# Altium integrated library Wuerth Elektronik SMD High Current Choke.IntLib: 172 symbols (part 1 of 2)
Pins are listed as number, name and electrical type; pins without a type are passive.

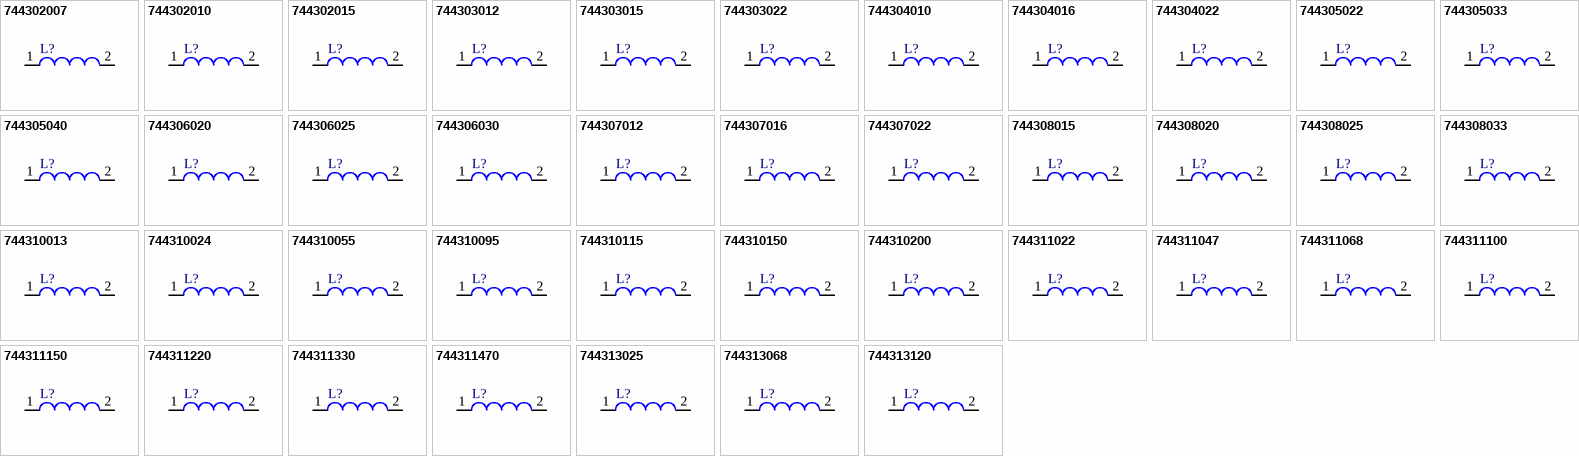
[diagram p0: symbols 744302007 to 744313120]

## 744302007
designator L?
SMD Flat Wire Inductor WE-HCM High Current, L=72.0 nH; Inductance: 72.0 nH; DatasheetVersion: ver 1, Jan-2008; PackageVersion: 2009; PackageReference: WE-HCM-7050; PackageDescription: SMD Inductor, 2-Leads, Body 7.15 x 7.0 mm; ComponentLink1Description: Manufacturer URL; ComponentLink1URL: http://www.we-online.com; ComponentLink2Description: Datasheet; ComponentLink2URL: http://www.we-online.de/katalog/media/pdf/744302007.pdf
footprint WE-HCM-7050 (SMD Inductor, 2-Leads, Body 7.15x7.0x4.7 mm)
pins: 1, 2

## 744302010
designator L?
SMD Flat Wire Inductor WE-HCM High Current, L=105 nH; Inductance: 105 nH; DatasheetVersion: ver 1, Jan-2008; PackageVersion: 2009; PackageReference: WE-HCM-7050; PackageDescription: SMD Inductor, 2-Leads, Body 7.15 x 7.0 mm; ComponentLink1Description: Manufacturer URL; ComponentLink1URL: http://www.we-online.com; ComponentLink2Description: Datasheet; ComponentLink2URL: http://www.we-online.de/katalog/media/pdf/744302010.pdf
footprint WE-HCM-7050 (SMD Inductor, 2-Leads, Body 7.15x7.0x4.7 mm)
pins: 1, 2

## 744302015
designator L?
SMD Flat Wire Inductor WE-HCM High Current, L=150 nH; Inductance: 150 nH; DatasheetVersion: ver 2, Jun-2009; PackageVersion: 2009; PackageReference: WE-HCM-7050; PackageDescription: SMD Inductor, 2-Leads, Body 7.15 x 7.0 mm; ComponentLink1Description: Manufacturer URL; ComponentLink1URL: http://www.we-online.com; ComponentLink2Description: Datasheet; ComponentLink2URL: http://www.we-online.de/katalog/media/pdf/744302015.pdf
footprint WE-HCM-7050 (SMD Inductor, 2-Leads, Body 7.15x7.0x4.7 mm)
pins: 1, 2

## 744303012
designator L?
SMD Flat Wire Inductor WE-HCM High Current, L=120 nH; Inductance: 120 nH; DatasheetVersion: ver 1, Dec-2007; PackageVersion: 2007; PackageReference: WE-HCM-1050; PackageDescription: SMD Inductor, 2-Leads, Body 10.2 x 7.0 mm; ComponentLink1Description: Manufacturer URL; ComponentLink1URL: http://www.we-online.com; ComponentLink2Description: Datasheet; ComponentLink2URL: http://www.we-online.de/katalog/media/pdf/744303012.pdf
footprint WE-HCM-1050 (SMD Inductor, 2-Leads, Body 10.2x7.0x5.0 mm)
pins: 1, 2

## 744303015
designator L?
SMD Flat Wire Inductor WE-HCM High Current, L=155 nH; Inductance: 155 nH; DatasheetVersion: ver 1, Dec-2007; PackageVersion: 2007; PackageReference: WE-HCM-1050; PackageDescription: SMD Inductor, 2-Leads, Body 10.2 x 7.0 mm; ComponentLink1Description: Manufacturer URL; ComponentLink1URL: http://www.we-online.com; ComponentLink2Description: Datasheet; ComponentLink2URL: http://www.we-online.de/katalog/media/pdf/744303015.pdf
footprint WE-HCM-1050 (SMD Inductor, 2-Leads, Body 10.2x7.0x5.0 mm)
pins: 1, 2

## 744303022
designator L?
SMD Flat Wire Inductor WE-HCM High Current, L=220 nH; Inductance: 220 nH; DatasheetVersion: ver 1, Dec-2007; PackageVersion: 2007; PackageReference: WE-HCM-1050; PackageDescription: SMD Inductor, 2-Leads, Body 10.2 x 7.0 mm; ComponentLink1Description: Manufacturer URL; ComponentLink1URL: http://www.we-online.com; ComponentLink2Description: Datasheet; ComponentLink2URL: http://www.we-online.de/katalog/media/pdf/744303022.pdf
footprint WE-HCM-1050 (SMD Inductor, 2-Leads, Body 10.2x7.0x5.0 mm)
pins: 1, 2

## 744304010
designator L?
SMD Flat Wire Inductor WE-HCM High Current, L=100 nH; Inductance: 100 nH; DatasheetVersion: ver 1, Aug-2009; PackageVersion: 2009; PackageReference: WE-HCM-1240; PackageDescription: SMD Inductor, 2-Leads, Body 11.5 x 11.8 mm; ComponentLink1Description: Manufacturer URL; ComponentLink1URL: http://www.we-online.com; ComponentLink2Description: Datasheet; ComponentLink2URL: http://www.we-online.de/katalog/media/pdf/744304010.pdf
footprint WE-HCM-1240 (SMD Inductor, 2-Leads, Body 11.5x11.8x4.0 mm)
pins: 1, 2

## 744304016
designator L?
SMD Flat Wire Inductor WE-HCM High Current, L=160 nH; Inductance: 160 nH; DatasheetVersion: ver 1, Aug-2009; PackageVersion: 2009; PackageReference: WE-HCM-1240; PackageDescription: SMD Inductor, 2-Leads, Body 11.5 x 11.8 mm; ComponentLink1Description: Manufacturer URL; ComponentLink1URL: http://www.we-online.com; ComponentLink2Description: Datasheet; ComponentLink2URL: http://www.we-online.de/katalog/media/pdf/744304016.pdf
footprint WE-HCM-1240 (SMD Inductor, 2-Leads, Body 11.5x11.8x4.0 mm)
pins: 1, 2

## 744304022
designator L?
SMD Flat Wire Inductor WE-HCM High Current, L=220 nH; Inductance: 220 nH; DatasheetVersion: ver 1, Aug-2009; PackageVersion: 2009; PackageReference: WE-HCM-1240; PackageDescription: SMD Inductor, 2-Leads, Body 11.5 x 11.8 mm; ComponentLink1Description: Manufacturer URL; ComponentLink1URL: http://www.we-online.com; ComponentLink2Description: Datasheet; ComponentLink2URL: http://www.we-online.de/katalog/media/pdf/744304022.pdf
footprint WE-HCM-1240 (SMD Inductor, 2-Leads, Body 11.5x11.8x4.0 mm)
pins: 1, 2

## 744305022
designator L?
SMD Flat Wire Inductor WE-HCM High Current, L=220 nH; Inductance: 220 nH; DatasheetVersion: ver 1, Jan-2009; PackageVersion: 2009; PackageReference: WE-HCM-1350; PackageDescription: SMD Inductor, 2-Leads, Body 13.5 x 13.3 mm; ComponentLink1Description: Manufacturer URL; ComponentLink1URL: http://www.we-online.com; ComponentLink2Description: Datasheet; ComponentLink2URL: http://www.we-online.de/katalog/media/pdf/744305022.pdf
footprint WE-HCM-1350 (SMD Inductor, 2-Leads, Body 13.5x13.3x5.2 mm)
pins: 1, 2

## 744305033
designator L?
SMD Flat Wire Inductor WE-HCM High Current, L=330 nH; Inductance: 330 nH; DatasheetVersion: ver 1, Jan-2009; PackageVersion: 2009; PackageReference: WE-HCM-1350; PackageDescription: SMD Inductor, 2-Leads, Body 13.5 x 13.3 mm; ComponentLink1Description: Manufacturer URL; ComponentLink1URL: http://www.we-online.com; ComponentLink2Description: Datasheet; ComponentLink2URL: http://www.we-online.de/katalog/media/pdf/744305033.pdf
footprint WE-HCM-1350 (SMD Inductor, 2-Leads, Body 13.5x13.3x5.2 mm)
pins: 1, 2

## 744305040
designator L?
SMD Flat Wire Inductor WE-HCM High Current, L=400 nH; Inductance: 400 nH; DatasheetVersion: ver 1, Jan-2009; PackageVersion: 2009; PackageReference: WE-HCM-1350; PackageDescription: SMD Inductor, 2-Leads, Body 13.5 x 13.3 mm; ComponentLink1Description: Manufacturer URL; ComponentLink1URL: http://www.we-online.com; ComponentLink2Description: Datasheet; ComponentLink2URL: http://www.we-online.de/katalog/media/pdf/744305040.pdf
footprint WE-HCM-1350 (SMD Inductor, 2-Leads, Body 13.5x13.3x5.2 mm)
pins: 1, 2

## 744306020
designator L?
SMD Flat Wire Inductor WE-HCM High Current, L=200 nH; Inductance: 200 nH; DatasheetVersion: ver 1, Jan-2009; PackageVersion: 2009; PackageReference: WE-HCM-1052; PackageDescription: SMD Inductor, 2-Leads, Body 10.5 x 10.3 mm; ComponentLink1Description: Manufacturer URL; ComponentLink1URL: http://www.we-online.com; ComponentLink2Description: Datasheet; ComponentLink2URL: http://www.we-online.de/katalog/media/pdf/744306020.pdf
footprint WE-HCM-1052 (SMD Inductor, 2-Leads, Body 10.5x10.3x5.5 mm)
pins: 1, 2

## 744306025
designator L?
SMD Flat Wire Inductor WE-HCM High Current, L=250 nH; Inductance: 250 nH; DatasheetVersion: ver 1, Jan-2009; PackageVersion: 2009; PackageReference: WE-HCM-1052; PackageDescription: SMD Inductor, 2-Leads, Body 10.5 x 10.3 mm; ComponentLink1Description: Manufacturer URL; ComponentLink1URL: http://www.we-online.com; ComponentLink2Description: Datasheet; ComponentLink2URL: http://www.we-online.de/katalog/media/pdf/744306025.pdf
footprint WE-HCM-1052 (SMD Inductor, 2-Leads, Body 10.5x10.3x5.5 mm)
pins: 1, 2

## 744306030
designator L?
SMD Flat Wire Inductor WE-HCM High Current, L=300 nH; Inductance: 300 nH; DatasheetVersion: ver 1, Jan-2009; PackageVersion: 2009; PackageReference: WE-HCM-1052; PackageDescription: SMD Inductor, 2-Leads, Body 10.5 x 10.3 mm; ComponentLink1Description: Manufacturer URL; ComponentLink1URL: http://www.we-online.com; ComponentLink2Description: Datasheet; ComponentLink2URL: http://www.we-online.de/katalog/media/pdf/744306030.pdf
footprint WE-HCM-1052 (SMD Inductor, 2-Leads, Body 10.5x10.3x5.5 mm)
pins: 1, 2

## 744307012
designator L?
SMD Flat Wire Inductor WE-HCM High Current, L=120 nH; Inductance: 120 nH; DatasheetVersion: ver 1, Jan-2009; PackageVersion: 2009; PackageReference: WE-HCM-7070; PackageDescription: SMD Inductor, 2-Leads, Body 7.4 x 7.2 mm; ComponentLink1Description: Manufacturer URL; ComponentLink1URL: http://www.we-online.com; ComponentLink2Description: Datasheet; ComponentLink2URL: http://www.we-online.de/katalog/media/pdf/744307012.pdf
footprint WE-HCM-7070 (SMD Inductor, 2-Leads, Body 7.4x7.2x7.2 mm)
pins: 1, 2

## 744307016
designator L?
SMD Flat Wire Inductor WE-HCM High Current, L=160 nH; Inductance: 160 nH; DatasheetVersion: ver 1, Jan-2009; PackageVersion: 2009; PackageReference: WE-HCM-7070; PackageDescription: SMD Inductor, 2-Leads, Body 7.4 x 7.2 mm; ComponentLink1Description: Manufacturer URL; ComponentLink1URL: http://www.we-online.com; ComponentLink2Description: Datasheet; ComponentLink2URL: http://www.we-online.de/katalog/media/pdf/744307016.pdf
footprint WE-HCM-7070 (SMD Inductor, 2-Leads, Body 7.4x7.2x7.2 mm)
pins: 1, 2

## 744307022
designator L?
SMD Flat Wire Inductor WE-HCM High Current, L=220 nH; Inductance: 220 nH; DatasheetVersion: ver 1, Jan-2009; PackageVersion: 2009; PackageReference: WE-HCM-7070; PackageDescription: SMD Inductor, 2-Leads, Body 7.4 x 7.2 mm; ComponentLink1Description: Manufacturer URL; ComponentLink1URL: http://www.we-online.com; ComponentLink2Description: Datasheet; ComponentLink2URL: http://www.we-online.de/katalog/media/pdf/744307022.pdf
footprint WE-HCM-7070 (SMD Inductor, 2-Leads, Body 7.4x7.2x7.2 mm)
pins: 1, 2

## 744308015
designator L?
SMD Flat Wire Inductor WE-HCM High Current, L=150 nH; Inductance: 150 nH; DatasheetVersion: ver 1, Jan-2009; PackageVersion: 2009; PackageReference: WE-HCM-1070; PackageDescription: SMD Inductor, 2-Leads, Body 10.1 x 7.0 mm; ComponentLink1Description: Manufacturer URL; ComponentLink1URL: http://www.we-online.com; ComponentLink2Description: Datasheet; ComponentLink2URL: http://www.we-online.de/katalog/media/pdf/744308015.pdf
footprint WE-HCM-1070 (SMD Inductor, 2-Leads, Body 10.1x7.0x7.0 mm)
pins: 1, 2

## 744308020
designator L?
SMD Flat Wire Inductor WE-HCM High Current, L=200 nH; Inductance: 200 nH; DatasheetVersion: ver 1, Jan-2009; PackageVersion: 2009; PackageReference: WE-HCM-1070; PackageDescription: SMD Inductor, 2-Leads, Body 10.1 x 7.0 mm; ComponentLink1Description: Manufacturer URL; ComponentLink1URL: http://www.we-online.com; ComponentLink2Description: Datasheet; ComponentLink2URL: http://www.we-online.de/katalog/media/pdf/744308020.pdf
footprint WE-HCM-1070 (SMD Inductor, 2-Leads, Body 10.1x7.0x7.0 mm)
pins: 1, 2

## 744308025
designator L?
SMD Flat Wire Inductor WE-HCM High Current, L=250 nH; Inductance: 250 nH; DatasheetVersion: ver 1, Jan-2009; PackageVersion: 2009; PackageReference: WE-HCM-1070; PackageDescription: SMD Inductor, 2-Leads, Body 10.1 x 7.0 mm; ComponentLink1Description: Manufacturer URL; ComponentLink1URL: http://www.we-online.com; ComponentLink2Description: Datasheet; ComponentLink2URL: http://www.we-online.de/katalog/media/pdf/744308025.pdf
footprint WE-HCM-1070 (SMD Inductor, 2-Leads, Body 10.1x7.0x7.0 mm)
pins: 1, 2

## 744308033
designator L?
SMD Flat Wire Inductor WE-HCM High Current, L=330 nH; Inductance: 330 nH; DatasheetVersion: ver 1, Jan-2009; PackageVersion: 2009; PackageReference: WE-HCM-1070; PackageDescription: SMD Inductor, 2-Leads, Body 10.1 x 7.0 mm; ComponentLink1Description: Manufacturer URL; ComponentLink1URL: http://www.we-online.com; ComponentLink2Description: Datasheet; ComponentLink2URL: http://www.we-online.de/katalog/media/pdf/744308033.pdf
footprint WE-HCM-1070 (SMD Inductor, 2-Leads, Body 10.1x7.0x7.0 mm)
pins: 1, 2

## 744310013
designator L?
SMD Flat Wire High Current Inductor WE-HCI, L=0.13 µH; Inductance: 0.13 µH; DatasheetVersion: ver 4, Jan-2008; PackageVersion: 2008; PackageReference: WE-HCI-7030; PackageDescription: SMD Inductor, 2-Leads, Body 7.0 x 6.9 mm; ComponentLink1Description: Manufacturer URL; ComponentLink1URL: http://www.we-online.com; ComponentLink2Description: Datasheet; ComponentLink2URL: http://www.we-online.de/katalog/media/pdf/744310013.pdf
footprint WE-HCI-7030 (SMD Inductor, 2-Leads, Body 7.0x6.9x3.3 mm)
pins: 1, 2

## 744310024
designator L?
SMD Flat Wire High Current Inductor WE-HCI, L=0.24 µH; Inductance: 0.24 µH; DatasheetVersion: ver 4, Jan-2008; PackageVersion: 2008; PackageReference: WE-HCI-7030; PackageDescription: SMD Inductor, 2-Leads, Body 7.0 x 6.9 mm; ComponentLink1Description: Manufacturer URL; ComponentLink1URL: http://www.we-online.com; ComponentLink2Description: Datasheet; ComponentLink2URL: http://www.we-online.de/katalog/media/pdf/744310024.pdf
footprint WE-HCI-7030 (SMD Inductor, 2-Leads, Body 7.0x6.9x3.3 mm)
pins: 1, 2

## 744310055
designator L?
SMD Flat Wire High Current Inductor WE-HCI, L=0.52 µH; Inductance: 0.52 µH; DatasheetVersion: ver 4, Jan-2008; PackageVersion: 2008; PackageReference: WE-HCI-7030; PackageDescription: SMD Inductor, 2-Leads, Body 7.0 x 6.9 mm; ComponentLink1Description: Manufacturer URL; ComponentLink1URL: http://www.we-online.com; ComponentLink2Description: Datasheet; ComponentLink2URL: http://www.we-online.de/katalog/media/pdf/744310055.pdf
footprint WE-HCI-7030 (SMD Inductor, 2-Leads, Body 7.0x6.9x3.3 mm)
pins: 1, 2

## 744310095
designator L?
SMD Flat Wire High Current Inductor WE-HCI, L=0.95 µH; Inductance: 0.95 µH; DatasheetVersion: ver 4, Jan-2008; PackageVersion: 2008; PackageReference: WE-HCI-7030; PackageDescription: SMD Inductor, 2-Leads, Body 7.0 x 6.9 mm; ComponentLink1Description: Manufacturer URL; ComponentLink1URL: http://www.we-online.com; ComponentLink2Description: Datasheet; ComponentLink2URL: http://www.we-online.de/katalog/media/pdf/744310095.pdf
footprint WE-HCI-7030 (SMD Inductor, 2-Leads, Body 7.0x6.9x3.3 mm)
pins: 1, 2

## 744310115
designator L?
SMD Flat Wire High Current Inductor WE-HCI, L=1.15 µH; Inductance: 1.15 µH; DatasheetVersion: ver 4, Jan-2008; PackageVersion: 2008; PackageReference: WE-HCI-7030; PackageDescription: SMD Inductor, 2-Leads, Body 7.0 x 6.9 mm; ComponentLink1Description: Manufacturer URL; ComponentLink1URL: http://www.we-online.com; ComponentLink2Description: Datasheet; ComponentLink2URL: http://www.we-online.de/katalog/media/pdf/744310115.pdf
footprint WE-HCI-7030 (SMD Inductor, 2-Leads, Body 7.0x6.9x3.3 mm)
pins: 1, 2

## 744310150
designator L?
SMD Flat Wire High Current Inductor WE-HCI, L=1.50 µH; Inductance: 1.50 µH; DatasheetVersion: ver 1, Mar-2010; PackageVersion: 2008; PackageReference: WE-HCI-7030; PackageDescription: SMD Inductor, 2-Leads, Body 7.0 x 6.9 mm; ComponentLink1Description: Manufacturer URL; ComponentLink1URL: http://www.we-online.com; ComponentLink2Description: Datasheet; ComponentLink2URL: http://www.we-online.de/katalog/media/pdf/744310150.pdf
footprint WE-HCI-7030 (SMD Inductor, 2-Leads, Body 7.0x6.9x3.3 mm)
pins: 1, 2

## 744310200
designator L?
SMD Flat Wire High Current Inductor WE-HCI, L=2.00 µH; Inductance: 2.00 µH; DatasheetVersion: ver 4, Jan-2008; PackageVersion: 2008; PackageReference: WE-HCI-7030; PackageDescription: SMD Inductor, 2-Leads, Body 7.0 x 6.9 mm; ComponentLink1Description: Manufacturer URL; ComponentLink1URL: http://www.we-online.com; ComponentLink2Description: Datasheet; ComponentLink2URL: http://www.we-online.de/katalog/media/pdf/744310200.pdf
footprint WE-HCI-7030 (SMD Inductor, 2-Leads, Body 7.0x6.9x3.3 mm)
pins: 1, 2

## 744311022
designator L?
SMD Flat Wire High Current Inductor WE-HCI, L=0.22 µH; Inductance: 0.22 µH; DatasheetVersion: ver 1, Feb-2008; PackageVersion: 2008; PackageReference: WE-HCI-7040; PackageDescription: SMD Inductor, 2-Leads, Body 7.0 x 6.9 mm; ComponentLink1Description: Manufacturer URL; ComponentLink1URL: http://www.we-online.com; ComponentLink2Description: Datasheet; ComponentLink2URL: http://www.we-online.de/katalog/media/pdf/744311022.pdf
footprint WE-HCI-7040 (SMD Inductor, 2-Leads, Body 7.0x6.9x4.0 mm)
pins: 1, 2

## 744311047
designator L?
SMD Flat Wire High Current Inductor WE-HCI, L=0.40 µH; Inductance: 0.40 µH; DatasheetVersion: ver 2, Mar-2010; PackageVersion: 2008; PackageReference: WE-HCI-7040; PackageDescription: SMD Inductor, 2-Leads, Body 7.0 x 6.9 mm; ComponentLink1Description: Manufacturer URL; ComponentLink1URL: http://www.we-online.com; ComponentLink2Description: Datasheet; ComponentLink2URL: http://www.we-online.de/katalog/media/pdf/744311047.pdf
footprint WE-HCI-7040 (SMD Inductor, 2-Leads, Body 7.0x6.9x4.0 mm)
pins: 1, 2

## 744311068
designator L?
SMD Flat Wire High Current Inductor WE-HCI, L=0.68 µH; Inductance: 0.68 µH; DatasheetVersion: ver 3, Jan-2008; PackageVersion: 2008; PackageReference: WE-HCI-7040; PackageDescription: SMD Inductor, 2-Leads, Body 7.0 x 6.9 mm; ComponentLink1Description: Manufacturer URL; ComponentLink1URL: http://www.we-online.com; ComponentLink2Description: Datasheet; ComponentLink2URL: http://www.we-online.de/katalog/media/pdf/744311068.pdf
footprint WE-HCI-7040 (SMD Inductor, 2-Leads, Body 7.0x6.9x4.0 mm)
pins: 1, 2

## 744311100
designator L?
SMD Flat Wire High Current Inductor WE-HCI, L=1.00 µH; Inductance: 1.00 µH; DatasheetVersion: ver 1, Feb-2008; PackageVersion: 2008; PackageReference: WE-HCI-7040; PackageDescription: SMD Inductor, 2-Leads, Body 7.0 x 6.9 mm; ComponentLink1Description: Manufacturer URL; ComponentLink1URL: http://www.we-online.com; ComponentLink2Description: Datasheet; ComponentLink2URL: http://www.we-online.de/katalog/media/pdf/744311100.pdf
footprint WE-HCI-7040 (SMD Inductor, 2-Leads, Body 7.0x6.9x4.0 mm)
pins: 1, 2

## 744311150
designator L?
SMD Flat Wire High Current Inductor WE-HCI, L=1.50 µH; Inductance: 1.50 µH; DatasheetVersion: ver 3, Jan-2008; PackageVersion: 2008; PackageReference: WE-HCI-7040; PackageDescription: SMD Inductor, 2-Leads, Body 7.0 x 6.9 mm; ComponentLink1Description: Manufacturer URL; ComponentLink1URL: http://www.we-online.com; ComponentLink2Description: Datasheet; ComponentLink2URL: http://www.we-online.de/katalog/media/pdf/744311150.pdf
footprint WE-HCI-7040 (SMD Inductor, 2-Leads, Body 7.0x6.9x4.0 mm)
pins: 1, 2

## 744311220
designator L?
SMD Flat Wire High Current Inductor WE-HCI, L=2.20 µH; Inductance: 2.20 µH; DatasheetVersion: ver 3, Jan-2008; PackageVersion: 2008; PackageReference: WE-HCI-7040; PackageDescription: SMD Inductor, 2-Leads, Body 7.0 x 6.9 mm; ComponentLink1Description: Manufacturer URL; ComponentLink1URL: http://www.we-online.com; ComponentLink2Description: Datasheet; ComponentLink2URL: http://www.we-online.de/katalog/media/pdf/744311220.pdf
footprint WE-HCI-7040 (SMD Inductor, 2-Leads, Body 7.0x6.9x4.0 mm)
pins: 1, 2

## 744311330
designator L?
SMD Flat Wire High Current Inductor WE-HCI, L=3.30 µH; Inductance: 3.30 µH; DatasheetVersion: ver 3, Jan-2008; PackageVersion: 2008; PackageReference: WE-HCI-7040; PackageDescription: SMD Inductor, 2-Leads, Body 7.0 x 6.9 mm; ComponentLink1Description: Manufacturer URL; ComponentLink1URL: http://www.we-online.com; ComponentLink2Description: Datasheet; ComponentLink2URL: http://www.we-online.de/katalog/media/pdf/744311330.pdf
footprint WE-HCI-7040 (SMD Inductor, 2-Leads, Body 7.0x6.9x4.0 mm)
pins: 1, 2

## 744311470
designator L?
SMD Flat Wire High Current Inductor WE-HCI, L=4.70 µH; Inductance: 4.70 µH; DatasheetVersion: ver 3, Jan-2008; PackageVersion: 2008; PackageReference: WE-HCI-7040; PackageDescription: SMD Inductor, 2-Leads, Body 7.0 x 6.9 mm; ComponentLink1Description: Manufacturer URL; ComponentLink1URL: http://www.we-online.com; ComponentLink2Description: Datasheet; ComponentLink2URL: http://www.we-online.de/katalog/media/pdf/744311470.pdf
footprint WE-HCI-7040 (SMD Inductor, 2-Leads, Body 7.0x6.9x4.0 mm)
pins: 1, 2

## 744313025
designator L?
SMD Flat Wire High Current Inductor WE-HCI, L=0.25 µH; Inductance: 0.25 µH; DatasheetVersion: ver 3, Jan-2008; PackageVersion: 2008; PackageReference: WE-HCI-1335; PackageDescription: SMD Inductor, 2-Leads, Body 12.9 x 12.8 mm; ComponentLink1Description: Manufacturer URL; ComponentLink1URL: http://www.we-online.com; ComponentLink2Description: Datasheet; ComponentLink2URL: http://www.we-online.de/katalog/media/pdf/744313025.pdf
footprint WE-HCI-1335 (SMD Inductor, 2-Leads, Body 12.9x12.8x3.5 mm)
pins: 1, 2

## 744313068
designator L?
SMD Flat Wire High Current Inductor WE-HCI, L=0.68 µH; Inductance: 0.68 µH; DatasheetVersion: ver 3, Jan-2008; PackageVersion: 2008; PackageReference: WE-HCI-1335; PackageDescription: SMD Inductor, 2-Leads, Body 12.9 x 12.8 mm; ComponentLink1Description: Manufacturer URL; ComponentLink1URL: http://www.we-online.com; ComponentLink2Description: Datasheet; ComponentLink2URL: http://www.we-online.de/katalog/media/pdf/744313068.pdf
footprint WE-HCI-1335 (SMD Inductor, 2-Leads, Body 12.9x12.8x3.5 mm)
pins: 1, 2

## 744313120
designator L?
SMD Flat Wire High Current Inductor WE-HCI, L=1.20 µH; Inductance: 1.20 µH; DatasheetVersion: ver 3, Jan-2008; PackageVersion: 2008; PackageReference: WE-HCI-1335; PackageDescription: SMD Inductor, 2-Leads, Body 12.9 x 12.8 mm; ComponentLink1Description: Manufacturer URL; ComponentLink1URL: http://www.we-online.com; ComponentLink2Description: Datasheet; ComponentLink2URL: http://www.we-online.de/katalog/media/pdf/744313120.pdf
footprint WE-HCI-1335 (SMD Inductor, 2-Leads, Body 12.9x12.8x3.5 mm)
pins: 1, 2

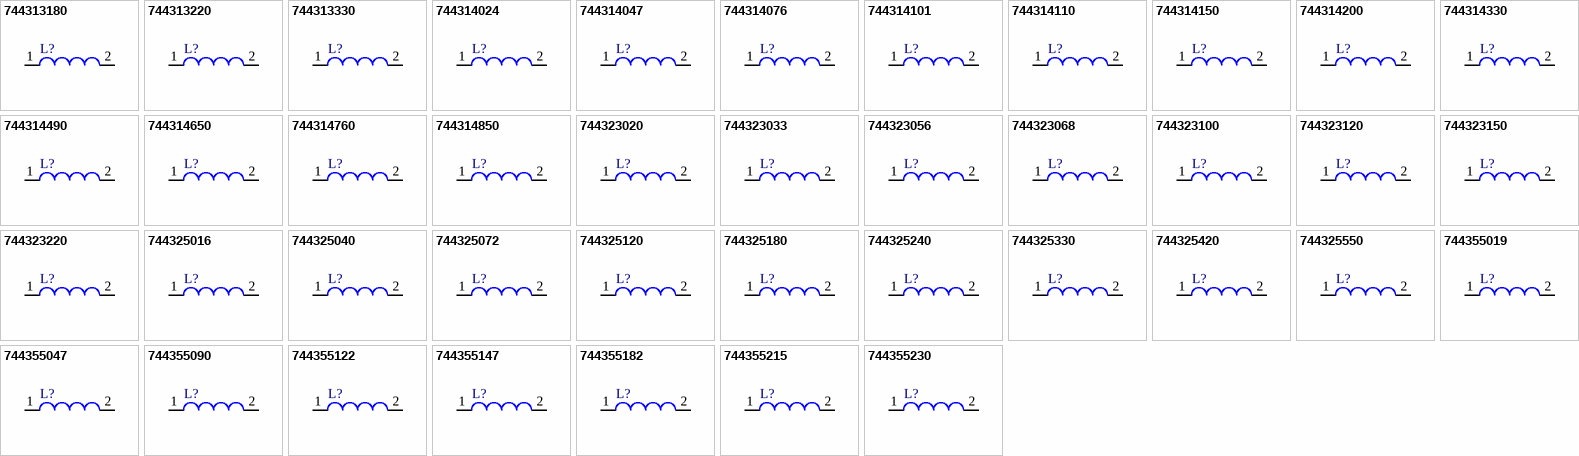
[diagram p1: symbols 744313180 to 744355230]

## 744313180
designator L?
SMD Flat Wire High Current Inductor WE-HCI, L=1.80 µH; Inductance: 1.80 µH; DatasheetVersion: ver 3, Jan-2008; PackageVersion: 2008; PackageReference: WE-HCI-1335; PackageDescription: SMD Inductor, 2-Leads, Body 12.9 x 12.8 mm; ComponentLink1Description: Manufacturer URL; ComponentLink1URL: http://www.we-online.com; ComponentLink2Description: Datasheet; ComponentLink2URL: http://www.we-online.de/katalog/media/pdf/744313180.pdf
footprint WE-HCI-1335 (SMD Inductor, 2-Leads, Body 12.9x12.8x3.5 mm)
pins: 1, 2

## 744313220
designator L?
SMD Flat Wire High Current Inductor WE-HCI, L=2.20 µH; Inductance: 2.20 µH; DatasheetVersion: ver 3, Jan-2008; PackageVersion: 2008; PackageReference: WE-HCI-1335; PackageDescription: SMD Inductor, 2-Leads, Body 12.9 x 12.8 mm; ComponentLink1Description: Manufacturer URL; ComponentLink1URL: http://www.we-online.com; ComponentLink2Description: Datasheet; ComponentLink2URL: http://www.we-online.de/katalog/media/pdf/744313220.pdf
footprint WE-HCI-1335 (SMD Inductor, 2-Leads, Body 12.9x12.8x3.5 mm)
pins: 1, 2

## 744313330
designator L?
SMD Flat Wire High Current Inductor WE-HCI, L=3.30 µH; Inductance: 3.30 µH; DatasheetVersion: ver 3, Jan-2008; PackageVersion: 2008; PackageReference: WE-HCI-1335; PackageDescription: SMD Inductor, 2-Leads, Body 12.9 x 12.8 mm; ComponentLink1Description: Manufacturer URL; ComponentLink1URL: http://www.we-online.com; ComponentLink2Description: Datasheet; ComponentLink2URL: http://www.we-online.de/katalog/media/pdf/744313330.pdf
footprint WE-HCI-1335 (SMD Inductor, 2-Leads, Body 12.9x12.8x3.5 mm)
pins: 1, 2

## 744314024
designator L?
SMD Flat Wire High Current Inductor WE-HCI, L=0.24 µH; Inductance: 0.24 µH; DatasheetVersion: ver 2, Jan-2008; PackageVersion: 2008; PackageReference: WE-HCI-7050; PackageDescription: SMD Inductor, 2-Leads, Body 7.0 x 6.9 mm; ComponentLink1Description: Manufacturer URL; ComponentLink1URL: http://www.we-online.com; ComponentLink2Description: Datasheet; ComponentLink2URL: http://www.we-online.de/katalog/media/pdf/744314024.pdf
footprint WE-HCI-7050 (SMD Inductor, 2-Leads, Body 7.0x6.9x5.0 mm)
pins: 1, 2

## 744314047
designator L?
SMD Flat Wire High Current Inductor WE-HCI, L=0.47 µH; Inductance: 0.47 µH; DatasheetVersion: ver 2, Jan-2008; PackageVersion: 2008; PackageReference: WE-HCI-7050; PackageDescription: SMD Inductor, 2-Leads, Body 7.0 x 6.9 mm; ComponentLink1Description: Manufacturer URL; ComponentLink1URL: http://www.we-online.com; ComponentLink2Description: Datasheet; ComponentLink2URL: http://www.we-online.de/katalog/media/pdf/744314047.pdf
footprint WE-HCI-7050 (SMD Inductor, 2-Leads, Body 7.0x6.9x5.0 mm)
pins: 1, 2

## 744314076
designator L?
SMD Flat Wire High Current Inductor WE-HCI, L=0.76 µH; Inductance: 0.76 µH; DatasheetVersion: ver 2, Jan-2008; PackageVersion: 2008; PackageReference: WE-HCI-7050; PackageDescription: SMD Inductor, 2-Leads, Body 7.0 x 6.9 mm; ComponentLink1Description: Manufacturer URL; ComponentLink1URL: http://www.we-online.com; ComponentLink2Description: Datasheet; ComponentLink2URL: http://www.we-online.de/katalog/media/pdf/744314076.pdf
footprint WE-HCI-7050 (SMD Inductor, 2-Leads, Body 7.0x6.9x5.0 mm)
pins: 1, 2

## 744314101
designator L?
SMD Flat Wire High Current Inductor WE-HCI, L=10.0 µH; Inductance: 10.0 µH; DatasheetVersion: ver 1, Aug-2009; PackageVersion: 2008; PackageReference: WE-HCI-7050; PackageDescription: SMD Inductor, 2-Leads, Body 7.0 x 6.9 mm; ComponentLink1Description: Manufacturer URL; ComponentLink1URL: http://www.we-online.com; ComponentLink2Description: Datasheet; ComponentLink2URL: http://www.we-online.de/katalog/media/pdf/744314101.pdf
footprint WE-HCI-7050 (SMD Inductor, 2-Leads, Body 7.0x6.9x5.0 mm)
pins: 1, 2

## 744314110
designator L?
SMD Flat Wire High Current Inductor WE-HCI, L=1.10 µH; Inductance: 1.10 µH; DatasheetVersion: ver 2, Jan-2008; PackageVersion: 2008; PackageReference: WE-HCI-7050; PackageDescription: SMD Inductor, 2-Leads, Body 7.0 x 6.9 mm; ComponentLink1Description: Manufacturer URL; ComponentLink1URL: http://www.we-online.com; ComponentLink2Description: Datasheet; ComponentLink2URL: http://www.we-online.de/katalog/media/pdf/744314110.pdf
footprint WE-HCI-7050 (SMD Inductor, 2-Leads, Body 7.0x6.9x5.0 mm)
pins: 1, 2

## 744314150
designator L?
SMD Flat Wire High Current Inductor WE-HCI, L=1.50 µH; Inductance: 1.50 µH; DatasheetVersion: ver 3, Sep-2008; PackageVersion: 2008; PackageReference: WE-HCI-7050; PackageDescription: SMD Inductor, 2-Leads, Body 7.0 x 6.9 mm; ComponentLink1Description: Manufacturer URL; ComponentLink1URL: http://www.we-online.com; ComponentLink2Description: Datasheet; ComponentLink2URL: http://www.we-online.de/katalog/media/pdf/744314150.pdf
footprint WE-HCI-7050 (SMD Inductor, 2-Leads, Body 7.0x6.9x5.0 mm)
pins: 1, 2

## 744314200
designator L?
SMD Flat Wire High Current Inductor WE-HCI, L=2.00 µH; Inductance: 2.00 µH; DatasheetVersion: ver 2, Jan-2008; PackageVersion: 2008; PackageReference: WE-HCI-7050; PackageDescription: SMD Inductor, 2-Leads, Body 7.0 x 6.9 mm; ComponentLink1Description: Manufacturer URL; ComponentLink1URL: http://www.we-online.com; ComponentLink2Description: Datasheet; ComponentLink2URL: http://www.we-online.de/katalog/media/pdf/744314200.pdf
footprint WE-HCI-7050 (SMD Inductor, 2-Leads, Body 7.0x6.9x5.0 mm)
pins: 1, 2

## 744314330
designator L?
SMD Flat Wire High Current Inductor WE-HCI, L=3.30 µH; Inductance: 3.30 µH; DatasheetVersion: ver 2, Jan-2008; PackageVersion: 2008; PackageReference: WE-HCI-7050; PackageDescription: SMD Inductor, 2-Leads, Body 7.0 x 6.9 mm; ComponentLink1Description: Manufacturer URL; ComponentLink1URL: http://www.we-online.com; ComponentLink2Description: Datasheet; ComponentLink2URL: http://www.we-online.de/katalog/media/pdf/744314330.pdf
footprint WE-HCI-7050 (SMD Inductor, 2-Leads, Body 7.0x6.9x5.0 mm)
pins: 1, 2

## 744314490
designator L?
SMD Flat Wire High Current Inductor WE-HCI, L=4.90 µH; Inductance: 4.90 µH; DatasheetVersion: ver 2, Jan-2008; PackageVersion: 2008; PackageReference: WE-HCI-7050; PackageDescription: SMD Inductor, 2-Leads, Body 7.0 x 6.9 mm; ComponentLink1Description: Manufacturer URL; ComponentLink1URL: http://www.we-online.com; ComponentLink2Description: Datasheet; ComponentLink2URL: http://www.we-online.de/katalog/media/pdf/744314490.pdf
footprint WE-HCI-7050 (SMD Inductor, 2-Leads, Body 7.0x6.9x5.0 mm)
pins: 1, 2

## 744314650
designator L?
SMD Flat Wire High Current Inductor WE-HCI, L=6.50 µH; Inductance: 6.50 µH; DatasheetVersion: ver 2, Jan-2008; PackageVersion: 2008; PackageReference: WE-HCI-7050; PackageDescription: SMD Inductor, 2-Leads, Body 7.0 x 6.9 mm; ComponentLink1Description: Manufacturer URL; ComponentLink1URL: http://www.we-online.com; ComponentLink2Description: Datasheet; ComponentLink2URL: http://www.we-online.de/katalog/media/pdf/744314650.pdf
footprint WE-HCI-7050 (SMD Inductor, 2-Leads, Body 7.0x6.9x5.0 mm)
pins: 1, 2

## 744314760
designator L?
SMD Flat Wire High Current Inductor WE-HCI, L=7.60 µH; Inductance: 7.60 µH; DatasheetVersion: ver 1, Aug-2009; PackageVersion: 2008; PackageReference: WE-HCI-7050; PackageDescription: SMD Inductor, 2-Leads, Body 7.0 x 6.9 mm; ComponentLink1Description: Manufacturer URL; ComponentLink1URL: http://www.we-online.com; ComponentLink2Description: Datasheet; ComponentLink2URL: http://www.we-online.de/katalog/media/pdf/744314760.pdf
footprint WE-HCI-7050 (SMD Inductor, 2-Leads, Body 7.0x6.9x5.0 mm)
pins: 1, 2

## 744314850
designator L?
SMD Flat Wire High Current Inductor WE-HCI, L=8.50 µH; Inductance: 8.50 µH; DatasheetVersion: ver 1, Aug-2009; PackageVersion: 2008; PackageReference: WE-HCI-7050; PackageDescription: SMD Inductor, 2-Leads, Body 7.0 x 6.9 mm; ComponentLink1Description: Manufacturer URL; ComponentLink1URL: http://www.we-online.com; ComponentLink2Description: Datasheet; ComponentLink2URL: http://www.we-online.de/katalog/media/pdf/744314850.pdf
footprint WE-HCI-7050 (SMD Inductor, 2-Leads, Body 7.0x6.9x5.0 mm)
pins: 1, 2

## 744323020
designator L?
SMD Flat Wire High Current Inductor WE-HCI, L=0.20 µH; Inductance: 0.20 µH; DatasheetVersion: ver 1, Aug-2008; PackageVersion: 2008; PackageReference: WE-HCI-1030; PackageDescription: SMD Inductor, 2-Leads, Body 10.6 x 10.6 mm; ComponentLink1Description: Manufacturer URL; ComponentLink1URL: http://www.we-online.com; ComponentLink2Description: Datasheet; ComponentLink2URL: http://www.we-online.de/katalog/media/pdf/744323020.pdf
footprint WE-HCI-1030 (SMD Inductor, 2-Leads, Body 10.6x10.6x3.1 mm)
pins: 1, 2

## 744323033
designator L?
SMD Flat Wire High Current Inductor WE-HCI, L=0.33 µH; Inductance: 0.33 µH; DatasheetVersion: ver 1, Aug-2008; PackageVersion: 2008; PackageReference: WE-HCI-1030; PackageDescription: SMD Inductor, 2-Leads, Body 10.6 x 10.6 mm; ComponentLink1Description: Manufacturer URL; ComponentLink1URL: http://www.we-online.com; ComponentLink2Description: Datasheet; ComponentLink2URL: http://www.we-online.de/katalog/media/pdf/744323033.pdf
footprint WE-HCI-1030 (SMD Inductor, 2-Leads, Body 10.6x10.6x3.1 mm)
pins: 1, 2

## 744323056
designator L?
SMD Flat Wire High Current Inductor WE-HCI, L=0.56 µH; Inductance: 0.56 µH; DatasheetVersion: ver 1, Aug-2008; PackageVersion: 2008; PackageReference: WE-HCI-1030; PackageDescription: SMD Inductor, 2-Leads, Body 10.6 x 10.6 mm; ComponentLink1Description: Manufacturer URL; ComponentLink1URL: http://www.we-online.com; ComponentLink2Description: Datasheet; ComponentLink2URL: http://www.we-online.de/katalog/media/pdf/744323056.pdf
footprint WE-HCI-1030 (SMD Inductor, 2-Leads, Body 10.6x10.6x3.1 mm)
pins: 1, 2

## 744323068
designator L?
SMD Flat Wire High Current Inductor WE-HCI, L=0.68 µH; Inductance: 0.68 µH; DatasheetVersion: ver 1, Aug-2008; PackageVersion: 2008; PackageReference: WE-HCI-1030; PackageDescription: SMD Inductor, 2-Leads, Body 10.6 x 10.6 mm; ComponentLink1Description: Manufacturer URL; ComponentLink1URL: http://www.we-online.com; ComponentLink2Description: Datasheet; ComponentLink2URL: http://www.we-online.de/katalog/media/pdf/744323068.pdf
footprint WE-HCI-1030 (SMD Inductor, 2-Leads, Body 10.6x10.6x3.1 mm)
pins: 1, 2

## 744323100
designator L?
SMD Flat Wire High Current Inductor WE-HCI, L=1.00 µH; Inductance: 1.00 µH; DatasheetVersion: ver 1, Aug-2008; PackageVersion: 2008; PackageReference: WE-HCI-1030; PackageDescription: SMD Inductor, 2-Leads, Body 10.6 x 10.6 mm; ComponentLink1Description: Manufacturer URL; ComponentLink1URL: http://www.we-online.com; ComponentLink2Description: Datasheet; ComponentLink2URL: http://www.we-online.de/katalog/media/pdf/744323100.pdf
footprint WE-HCI-1030 (SMD Inductor, 2-Leads, Body 10.6x10.6x3.1 mm)
pins: 1, 2

## 744323120
designator L?
SMD Flat Wire High Current Inductor WE-HCI, L=1.20 µH; Inductance: 1.20 µH; DatasheetVersion: ver 1, Aug-2008; PackageVersion: 2008; PackageReference: WE-HCI-1030; PackageDescription: SMD Inductor, 2-Leads, Body 10.6 x 10.6 mm; ComponentLink1Description: Manufacturer URL; ComponentLink1URL: http://www.we-online.com; ComponentLink2Description: Datasheet; ComponentLink2URL: http://www.we-online.de/katalog/media/pdf/744323120.pdf
footprint WE-HCI-1030 (SMD Inductor, 2-Leads, Body 10.6x10.6x3.1 mm)
pins: 1, 2

## 744323150
designator L?
SMD Flat Wire High Current Inductor WE-HCI, L=1.50 µH; Inductance: 1.50 µH; DatasheetVersion: ver 1, Aug-2008; PackageVersion: 2008; PackageReference: WE-HCI-1030; PackageDescription: SMD Inductor, 2-Leads, Body 10.6 x 10.6 mm; ComponentLink1Description: Manufacturer URL; ComponentLink1URL: http://www.we-online.com; ComponentLink2Description: Datasheet; ComponentLink2URL: http://www.we-online.de/katalog/media/pdf/744323150.pdf
footprint WE-HCI-1030 (SMD Inductor, 2-Leads, Body 10.6x10.6x3.1 mm)
pins: 1, 2

## 744323220
designator L?
SMD Flat Wire High Current Inductor WE-HCI, L=2.20 µH; Inductance: 2.20 µH; DatasheetVersion: ver 1, Aug-2008; PackageVersion: 2008; PackageReference: WE-HCI-1030; PackageDescription: SMD Inductor, 2-Leads, Body 10.6 x 10.6 mm; ComponentLink1Description: Manufacturer URL; ComponentLink1URL: http://www.we-online.com; ComponentLink2Description: Datasheet; ComponentLink2URL: http://www.we-online.de/katalog/media/pdf/744323220.pdf
footprint WE-HCI-1030 (SMD Inductor, 2-Leads, Body 10.6x10.6x3.1 mm)
pins: 1, 2

## 744325016
designator L?
SMD Flat Wire High Current Inductor WE-HCI, L=0.16 µH; Inductance: 0.16 µH; DatasheetVersion: ver 2, Jan-2008; PackageVersion: 2008; PackageReference: WE-HCI-1050; PackageDescription: SMD Inductor, 2-Leads, Body 10.5 x 10.2 mm; ComponentLink1Description: Manufacturer URL; ComponentLink1URL: http://www.we-online.com; ComponentLink2Description: Datasheet; ComponentLink2URL: http://www.we-online.de/katalog/media/pdf/744325016.pdf
footprint WE-HCI-1050 (SMD Inductor, 2-Leads, Body 10.5x10.2x5.0 mm)
pins: 1, 2

## 744325040
designator L?
SMD Flat Wire High Current Inductor WE-HCI, L=0.40 µH; Inductance: 0.40 µH; DatasheetVersion: ver 2, Jan-2008; PackageVersion: 2008; PackageReference: WE-HCI-1050; PackageDescription: SMD Inductor, 2-Leads, Body 10.5 x 10.2 mm; ComponentLink1Description: Manufacturer URL; ComponentLink1URL: http://www.we-online.com; ComponentLink2Description: Datasheet; ComponentLink2URL: http://www.we-online.de/katalog/media/pdf/744325040.pdf
footprint WE-HCI-1050 (SMD Inductor, 2-Leads, Body 10.5x10.2x5.0 mm)
pins: 1, 2

## 744325072
designator L?
SMD Flat Wire High Current Inductor WE-HCI, L=0.72 µH; Inductance: 0.72 µH; DatasheetVersion: ver 2, Jan-2008; PackageVersion: 2008; PackageReference: WE-HCI-1050; PackageDescription: SMD Inductor, 2-Leads, Body 10.5 x 10.2 mm; ComponentLink1Description: Manufacturer URL; ComponentLink1URL: http://www.we-online.com; ComponentLink2Description: Datasheet; ComponentLink2URL: http://www.we-online.de/katalog/media/pdf/744325072.pdf
footprint WE-HCI-1050 (SMD Inductor, 2-Leads, Body 10.5x10.2x5.0 mm)
pins: 1, 2

## 744325120
designator L?
SMD Flat Wire High Current Inductor WE-HCI, L=1.20 µH; Inductance: 1.20 µH; DatasheetVersion: ver 2, Jan-2008; PackageVersion: 2008; PackageReference: WE-HCI-1050; PackageDescription: SMD Inductor, 2-Leads, Body 10.5 x 10.2 mm; ComponentLink1Description: Manufacturer URL; ComponentLink1URL: http://www.we-online.com; ComponentLink2Description: Datasheet; ComponentLink2URL: http://www.we-online.de/katalog/media/pdf/744325120.pdf
footprint WE-HCI-1050 (SMD Inductor, 2-Leads, Body 10.5x10.2x5.0 mm)
pins: 1, 2

## 744325180
designator L?
SMD Flat Wire High Current Inductor WE-HCI, L=1.80 µH; Inductance: 1.80 µH; DatasheetVersion: ver 2, Jan-2008; PackageVersion: 2008; PackageReference: WE-HCI-1050; PackageDescription: SMD Inductor, 2-Leads, Body 10.5 x 10.2 mm; ComponentLink1Description: Manufacturer URL; ComponentLink1URL: http://www.we-online.com; ComponentLink2Description: Datasheet; ComponentLink2URL: http://www.we-online.de/katalog/media/pdf/744325180.pdf
footprint WE-HCI-1050 (SMD Inductor, 2-Leads, Body 10.5x10.2x5.0 mm)
pins: 1, 2

## 744325240
designator L?
SMD Flat Wire High Current Inductor WE-HCI, L=2.40 µH; Inductance: 2.40 µH; DatasheetVersion: ver 2, Jan-2008; PackageVersion: 2008; PackageReference: WE-HCI-1050; PackageDescription: SMD Inductor, 2-Leads, Body 10.5 x 10.2 mm; ComponentLink1Description: Manufacturer URL; ComponentLink1URL: http://www.we-online.com; ComponentLink2Description: Datasheet; ComponentLink2URL: http://www.we-online.de/katalog/media/pdf/744325240.pdf
footprint WE-HCI-1050 (SMD Inductor, 2-Leads, Body 10.5x10.2x5.0 mm)
pins: 1, 2

## 744325330
designator L?
SMD Flat Wire High Current Inductor WE-HCI, L=3.30 µH; Inductance: 3.30 µH; DatasheetVersion: ver 2, Jan-2008; PackageVersion: 2008; PackageReference: WE-HCI-1050; PackageDescription: SMD Inductor, 2-Leads, Body 10.5 x 10.2 mm; ComponentLink1Description: Manufacturer URL; ComponentLink1URL: http://www.we-online.com; ComponentLink2Description: Datasheet; ComponentLink2URL: http://www.we-online.de/katalog/media/pdf/744325330.pdf
footprint WE-HCI-1050 (SMD Inductor, 2-Leads, Body 10.5x10.2x5.0 mm)
pins: 1, 2

## 744325420
designator L?
SMD Flat Wire High Current Inductor WE-HCI, L=4.20 µH; Inductance: 4.20 µH; DatasheetVersion: ver 2, Jan-2008; PackageVersion: 2008; PackageReference: WE-HCI-1050; PackageDescription: SMD Inductor, 2-Leads, Body 10.5 x 10.2 mm; ComponentLink1Description: Manufacturer URL; ComponentLink1URL: http://www.we-online.com; ComponentLink2Description: Datasheet; ComponentLink2URL: http://www.we-online.de/katalog/media/pdf/744325420.pdf
footprint WE-HCI-1050 (SMD Inductor, 2-Leads, Body 10.5x10.2x5.0 mm)
pins: 1, 2

## 744325550
designator L?
SMD Flat Wire High Current Inductor WE-HCI, L=5.50 µH; Inductance: 5.50 µH; DatasheetVersion: ver 2, Jan-2008; PackageVersion: 2008; PackageReference: WE-HCI-1050; PackageDescription: SMD Inductor, 2-Leads, Body 10.5 x 10.2 mm; ComponentLink1Description: Manufacturer URL; ComponentLink1URL: http://www.we-online.com; ComponentLink2Description: Datasheet; ComponentLink2URL: http://www.we-online.de/katalog/media/pdf/744325550.pdf
footprint WE-HCI-1050 (SMD Inductor, 2-Leads, Body 10.5x10.2x5.0 mm)
pins: 1, 2

## 744355019
designator L?
SMD Flat Wire High Current Inductor WE-HCI, L=0.19 µH; Inductance: 0.19 µH; DatasheetVersion: ver 5, Jan-2008; PackageVersion: 2008; PackageReference: WE-HCI-1350; PackageDescription: Inductor, 2-Leads, Body 13.0 x 12.8 mm; ComponentLink1Description: Manufacturer URL; ComponentLink1URL: http://www.we-online.com; ComponentLink2Description: Datasheet; ComponentLink2URL: http://www.we-online.de/katalog/media/pdf/744355019.pdf
footprint WE-HCI-1350 (Inductor, 2-Leads, Body 13.0x12.8x5.0 mm)
pins: 1, 2

## 744355047
designator L?
SMD Flat Wire High Current Inductor WE-HCI, L=0.47 µH; Inductance: 0.47 µH; DatasheetVersion: ver 5, Jan-2008; PackageVersion: 2008; PackageReference: WE-HCI-1350; PackageDescription: Inductor, 2-Leads, Body 13.0 x 12.8 mm; ComponentLink1Description: Manufacturer URL; ComponentLink1URL: http://www.we-online.com; ComponentLink2Description: Datasheet; ComponentLink2URL: http://www.we-online.de/katalog/media/pdf/744355047.pdf
footprint WE-HCI-1350 (Inductor, 2-Leads, Body 13.0x12.8x5.0 mm)
pins: 1, 2

## 744355090
designator L?
SMD Flat Wire High Current Inductor WE-HCI, L=0.90 µH; Inductance: 0.90 µH; DatasheetVersion: ver 5, Jan-2008; PackageVersion: 2008; PackageReference: WE-HCI-1350; PackageDescription: Inductor, 2-Leads, Body 13.0 x 12.8 mm; ComponentLink1Description: Manufacturer URL; ComponentLink1URL: http://www.we-online.com; ComponentLink2Description: Datasheet; ComponentLink2URL: http://www.we-online.de/katalog/media/pdf/744355090.pdf
footprint WE-HCI-1350 (Inductor, 2-Leads, Body 13.0x12.8x5.0 mm)
pins: 1, 2

## 744355122
designator L?
SMD Flat Wire High Current Inductor WE-HCI, L=0.20 µH; Inductance: 0.20 µH; DatasheetVersion: ver 5, Jan-2008; PackageVersion: 2008; PackageReference: WE-HCI-1365; PackageDescription: Inductor, 2-Leads, Body 13.2 x 12.8 mm; ComponentLink1Description: Manufacturer URL; ComponentLink1URL: http://www.we-online.com; ComponentLink2Description: Datasheet; ComponentLink2URL: http://www.we-online.de/katalog/media/pdf/744355122.pdf
footprint WE-HCI-1365 (Inductor, 2-Leads, Body 13.2x12.8x6.5 mm)
pins: 1, 2

## 744355147
designator L?
SMD Flat Wire High Current Inductor WE-HCI, L=0.47 µH; Inductance: 0.47 µH; DatasheetVersion: ver 5, Jan-2008; PackageVersion: 2008; PackageReference: WE-HCI-1365; PackageDescription: Inductor, 2-Leads, Body 13.2 x 12.8 mm; ComponentLink1Description: Manufacturer URL; ComponentLink1URL: http://www.we-online.com; ComponentLink2Description: Datasheet; ComponentLink2URL: http://www.we-online.de/katalog/media/pdf/744355147.pdf
footprint WE-HCI-1365 (Inductor, 2-Leads, Body 13.2x12.8x6.5 mm)
pins: 1, 2

## 744355182
designator L?
SMD Flat Wire High Current Inductor WE-HCI, L=0.82 µH; Inductance: 0.82 µH; DatasheetVersion: ver 4, Jan-2008; PackageVersion: 2008; PackageReference: WE-HCI-1365; PackageDescription: Inductor, 2-Leads, Body 13.2 x 12.8 mm; ComponentLink1Description: Manufacturer URL; ComponentLink1URL: http://www.we-online.com; ComponentLink2Description: Datasheet; ComponentLink2URL: http://www.we-online.de/katalog/media/pdf/744355182.pdf
footprint WE-HCI-1365 (Inductor, 2-Leads, Body 13.2x12.8x6.5 mm)
pins: 1, 2

## 744355215
designator L?
SMD Flat Wire High Current Inductor WE-HCI, L=0.15 µH; Inductance: 0.15 µH; DatasheetVersion: ver 7, Jan-2008; PackageVersion: 2008; PackageReference: WE-HCI-1040; PackageDescription: Inductor, 2-Leads, Body 10.5 x 10.2 mm; ComponentLink1Description: Manufacturer URL; ComponentLink1URL: http://www.we-online.com; ComponentLink2Description: Datasheet; ComponentLink2URL: http://www.we-online.de/katalog/media/pdf/744355215.pdf
footprint WE-HCI-1040 (Inductor, 2-Leads, Body 10.5x10.2x4.2 mm)
pins: 1, 2

## 744355230
designator L?
SMD Flat Wire High Current Inductor WE-HCI, L=0.30 µH; Inductance: 0.30 µH; DatasheetVersion: ver 7, Jan-2008; PackageVersion: 2008; PackageReference: WE-HCI-1040; PackageDescription: Inductor, 2-Leads, Body 10.5 x 10.2 mm; ComponentLink1Description: Manufacturer URL; ComponentLink1URL: http://www.we-online.com; ComponentLink2Description: Datasheet; ComponentLink2URL: http://www.we-online.de/katalog/media/pdf/744355230.pdf
footprint WE-HCI-1040 (Inductor, 2-Leads, Body 10.5x10.2x4.2 mm)
pins: 1, 2

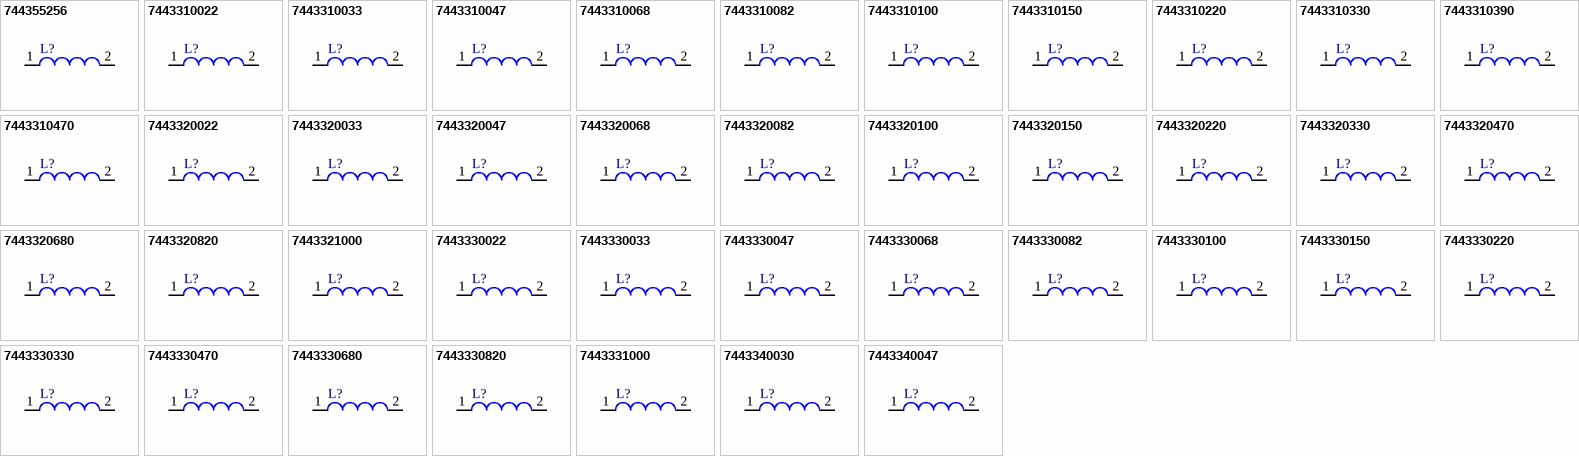
[diagram p2: symbols 744355256 to 7443340047]

## 744355256
designator L?
SMD Flat Wire High Current Inductor WE-HCI, L=0.56 µH; Inductance: 0.56 µH; DatasheetVersion: ver 7, Jan-2008; PackageVersion: 2008; PackageReference: WE-HCI-1040; PackageDescription: Inductor, 2-Leads, Body 10.5 x 10.2 mm; ComponentLink1Description: Manufacturer URL; ComponentLink1URL: http://www.we-online.com; ComponentLink2Description: Datasheet; ComponentLink2URL: http://www.we-online.de/katalog/media/pdf/744355256.pdf
footprint WE-HCI-1040 (Inductor, 2-Leads, Body 10.5x10.2x4.2 mm)
pins: 1, 2

## 7443310022
designator L?
SMD High Current Cube Inductor WE-HCC, L=0.22 µH; Inductance: 0.22 µH; DatasheetVersion: ver 2, Nov-2009; PackageVersion: 2009; PackageReference: WE-HCC-1210; PackageDescription: Inductor, 2-Leads, Body 12.1 x 11.4 mm; ComponentLink1Description: Manufacturer URL; ComponentLink1URL: http://www.we-online.com; ComponentLink2Description: Datasheet; ComponentLink2URL: http://www.we-online.de/katalog/media/pdf/7443310022.pdf
footprint WE-HCC-1210 (Inductor, 2-Leads, Body 12.1x11.4x10.0 mm)
pins: 1, 2

## 7443310033
designator L?
SMD High Current Cube Inductor WE-HCC, L=0.33 µH; Inductance: 0.33 µH; DatasheetVersion: ver 2, Nov-2009; PackageVersion: 2009; PackageReference: WE-HCC-1210; PackageDescription: Inductor, 2-Leads, Body 12.1 x 11.4 mm; ComponentLink1Description: Manufacturer URL; ComponentLink1URL: http://www.we-online.com; ComponentLink2Description: Datasheet; ComponentLink2URL: http://www.we-online.de/katalog/media/pdf/7443310033.pdf
footprint WE-HCC-1210 (Inductor, 2-Leads, Body 12.1x11.4x10.0 mm)
pins: 1, 2

## 7443310047
designator L?
SMD High Current Cube Inductor WE-HCC, L=0.47 µH; Inductance: 0.47 µH; DatasheetVersion: ver 2, Nov-2009; PackageVersion: 2009; PackageReference: WE-HCC-1210; PackageDescription: Inductor, 2-Leads, Body 12.1 x 11.4 mm; ComponentLink1Description: Manufacturer URL; ComponentLink1URL: http://www.we-online.com; ComponentLink2Description: Datasheet; ComponentLink2URL: http://www.we-online.de/katalog/media/pdf/7443310047.pdf
footprint WE-HCC-1210 (Inductor, 2-Leads, Body 12.1x11.4x10.0 mm)
pins: 1, 2

## 7443310068
designator L?
SMD High Current Cube Inductor WE-HCC, L=0.68 µH; Inductance: 0.68 µH; DatasheetVersion: ver 2, Nov-2009; PackageVersion: 2009; PackageReference: WE-HCC-1210; PackageDescription: Inductor, 2-Leads, Body 12.1 x 11.4 mm; ComponentLink1Description: Manufacturer URL; ComponentLink1URL: http://www.we-online.com; ComponentLink2Description: Datasheet; ComponentLink2URL: http://www.we-online.de/katalog/media/pdf/7443310068.pdf
footprint WE-HCC-1210 (Inductor, 2-Leads, Body 12.1x11.4x10.0 mm)
pins: 1, 2

## 7443310082
designator L?
SMD High Current Cube Inductor WE-HCC, L=0.82 µH; Inductance: 0.82 µH; DatasheetVersion: ver 2, Nov-2009; PackageVersion: 2009; PackageReference: WE-HCC-1210; PackageDescription: Inductor, 2-Leads, Body 12.1 x 11.4 mm; ComponentLink1Description: Manufacturer URL; ComponentLink1URL: http://www.we-online.com; ComponentLink2Description: Datasheet; ComponentLink2URL: http://www.we-online.de/katalog/media/pdf/7443310082.pdf
footprint WE-HCC-1210 (Inductor, 2-Leads, Body 12.1x11.4x10.0 mm)
pins: 1, 2

## 7443310100
designator L?
SMD High Current Cube Inductor WE-HCC, L=1.00 µH; Inductance: 1.00 µH; DatasheetVersion: ver 2, Nov-2009; PackageVersion: 2009; PackageReference: WE-HCC-1210; PackageDescription: Inductor, 2-Leads, Body 12.1 x 11.4 mm; ComponentLink1Description: Manufacturer URL; ComponentLink1URL: http://www.we-online.com; ComponentLink2Description: Datasheet; ComponentLink2URL: http://www.we-online.de/katalog/media/pdf/7443310100.pdf
footprint WE-HCC-1210 (Inductor, 2-Leads, Body 12.1x11.4x10.0 mm)
pins: 1, 2

## 7443310150
designator L?
SMD High Current Cube Inductor WE-HCC, L=1.50 µH; Inductance: 1.50 µH; DatasheetVersion: ver 2, Nov-2009; PackageVersion: 2009; PackageReference: WE-HCC-1210; PackageDescription: Inductor, 2-Leads, Body 12.1 x 11.4 mm; ComponentLink1Description: Manufacturer URL; ComponentLink1URL: http://www.we-online.com; ComponentLink2Description: Datasheet; ComponentLink2URL: http://www.we-online.de/katalog/media/pdf/7443310150.pdf
footprint WE-HCC-1210 (Inductor, 2-Leads, Body 12.1x11.4x10.0 mm)
pins: 1, 2

## 7443310220
designator L?
SMD High Current Cube Inductor WE-HCC, L=2.20 µH; Inductance: 2.20 µH; DatasheetVersion: ver 2, Nov-2009; PackageVersion: 2009; PackageReference: WE-HCC-1210; PackageDescription: Inductor, 2-Leads, Body 12.1 x 11.4 mm; ComponentLink1Description: Manufacturer URL; ComponentLink1URL: http://www.we-online.com; ComponentLink2Description: Datasheet; ComponentLink2URL: http://www.we-online.de/katalog/media/pdf/7443310220.pdf
footprint WE-HCC-1210 (Inductor, 2-Leads, Body 12.1x11.4x10.0 mm)
pins: 1, 2

## 7443310330
designator L?
SMD High Current Cube Inductor WE-HCC, L=3.30 µH; Inductance: 3.30 µH; DatasheetVersion: ver 2, Nov-2009; PackageVersion: 2009; PackageReference: WE-HCC-1210; PackageDescription: Inductor, 2-Leads, Body 12.1 x 11.4 mm; ComponentLink1Description: Manufacturer URL; ComponentLink1URL: http://www.we-online.com; ComponentLink2Description: Datasheet; ComponentLink2URL: http://www.we-online.de/katalog/media/pdf/7443310330.pdf
footprint WE-HCC-1210 (Inductor, 2-Leads, Body 12.1x11.4x10.0 mm)
pins: 1, 2

## 7443310390
designator L?
SMD High Current Cube Inductor WE-HCC, L=3.90 µH; Inductance: 3.90 µH; DatasheetVersion: ver 2, Nov-2009; PackageVersion: 2009; PackageReference: WE-HCC-1210; PackageDescription: Inductor, 2-Leads, Body 12.1 x 11.4 mm; ComponentLink1Description: Manufacturer URL; ComponentLink1URL: http://www.we-online.com; ComponentLink2Description: Datasheet; ComponentLink2URL: http://www.we-online.de/katalog/media/pdf/7443310390.pdf
footprint WE-HCC-1210 (Inductor, 2-Leads, Body 12.1x11.4x10.0 mm)
pins: 1, 2

## 7443310470
designator L?
SMD High Current Cube Inductor WE-HCC, L=4.70 µH; Inductance: 4.70 µH; DatasheetVersion: ver 2, Nov-2009; PackageVersion: 2009; PackageReference: WE-HCC-1210; PackageDescription: Inductor, 2-Leads, Body 12.1 x 11.4 mm; ComponentLink1Description: Manufacturer URL; ComponentLink1URL: http://www.we-online.com; ComponentLink2Description: Datasheet; ComponentLink2URL: http://www.we-online.de/katalog/media/pdf/7443310470.pdf
footprint WE-HCC-1210 (Inductor, 2-Leads, Body 12.1x11.4x10.0 mm)
pins: 1, 2